# EAGLE library part PIN_HEADER_MALE-2X03 (library WarthogRobotics-Connectors)
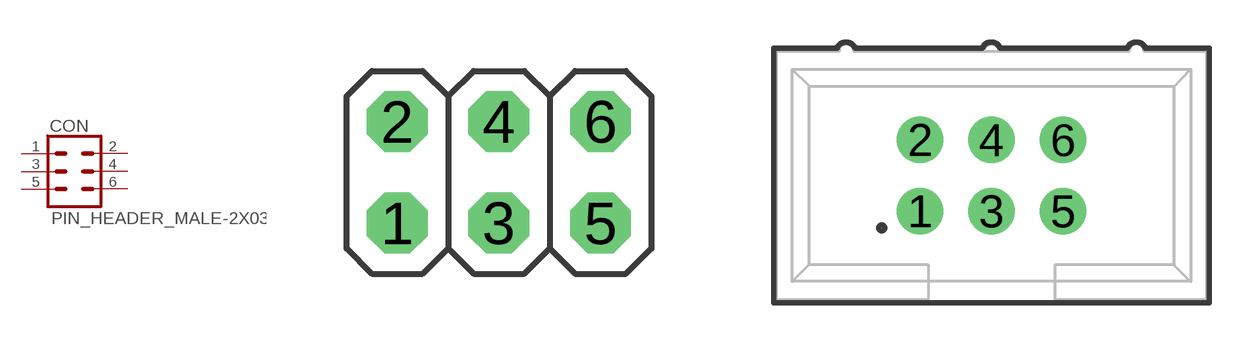
[diagram p3: symbol with the pads of 2X03-2.54MM; footprints 2X03-2.54MM, BOX_HEADER-2X03-2.54MM]

Designator prefix CON

## PIN_HEADER_MALE-2X03  [2X03-2.54MM]
1  1
2  2
3  3
4  4
5  5
6  6

## PIN_HEADER_MALE-2X03BOXHEADER-2X03-2.54MM  [BOX_HEADER-2X03-2.54MM]
Pads as for 2X03-2.54MM

## PIN_HEADER_MALE-2X03BOXHEADER-2X03/90-2.54MM  [BOX_HEADER-2X03/90-2.54MM]
Pads as for 2X03-2.54MM

## Footprint 2X03-2.54MM (pad centres in mm)
PIN HEADER
drill 1.016 octagon: 1 -2.54,-1.27; 2 -2.54,1.27; 3 0,-1.27; 4 0,1.27; 5 2.54,-1.27; 6 2.54,1.27

## Footprint BOX_HEADER-2X03-2.54MM (pad centres in mm)
WR-BHD 2.54 mm Male Box Header, 6 Pins
drill 1.1: 1 -2.54,-1.27; 2 -2.54,1.27; 3 0,-1.27; 4 0,1.27; 5 2.54,-1.27; 6 2.54,1.27

## Footprint BOX_HEADER-2X03/90-2.54MM (pad centres in mm)
WR-BHD 2.54 mm Male Angled Box Header, 6 Pins
drill 1.1: 1 2.54,8.805; 2 2.54,6.265; 3 0,8.805; 4 0,6.265; 5 -2.54,8.805; 6 -2.54,6.265